# EAGLE library part LCD_2X16_1602A (library SMD-Components_E950)
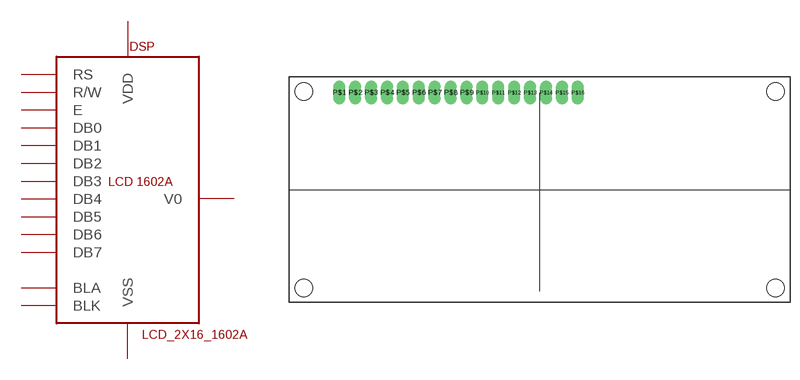
[diagram p6: symbol with the pads of LCD_2X16_1602A; footprint LCD_2X16_1602A]

Designator prefix DSP

## LCD_2X16_1602A  [LCD_2X16_1602A]
P$1  VSS
P$2  VDD
P$3  V0
P$4  RS
P$5  R/W
P$6  E
P$7  DB0
P$8  DB1
P$9  DB2
P$10  DB3
P$11  DB4
P$12  DB5
P$13  DB6
P$14  DB7
P$15  BLA
P$16  BLK

## Footprint LCD_2X16_1602A (pad centres in mm)
drill 1 pad 1.93 long: P$1 0,0; P$2 2.54,0; P$3 5.08,0; P$4 7.62,0; P$5 10.16,0; P$6 12.7,0; P$7 15.24,0; P$8 17.78,0; P$9 20.32,0; P$10 22.86,0; P$11 25.4,0; P$12 27.94,0; P$13 30.48,0; P$14 33.02,0; P$15 35.56,0; P$16 38.1,0
hole 2.8 at -5.7,0.2
hole 2.8 at -5.7,-31.2
hole 2.8 at 69.7,-31.2
hole 2.8 at 69.7,0.2